# EAGLE library part LT3758A (library rezzonics)
High Input Voltage, Boost, Flyback, SEPIC and Inverting Controller LT3758/LT3758A http://cds.linear.com/docs/en/datasheet/3758Afd.pdf
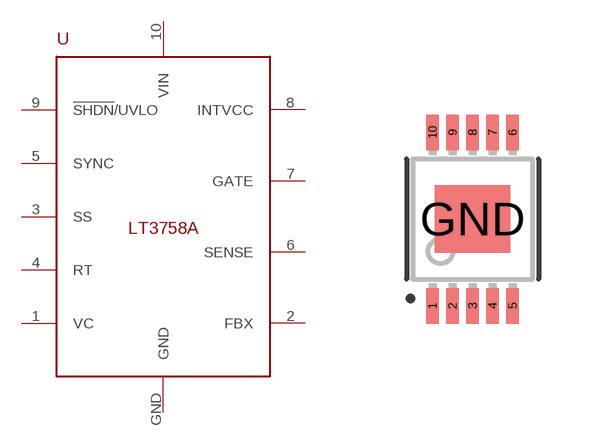
[diagram p6: symbol with the pads of MSOP-10-GNDPAD; footprint MSOP-10-GNDPAD]

Designator prefix U

## LT3758A  [MSOP-10-GNDPAD]
1  VC  pas
2  FBX  in
3  SS  pas
4  RT  pas
5  SYNC  in
6  SENSE  in
7  GATE  out
8  INTVCC  pwr
9  !SHDN!/UVLO  pas
10  VIN  pwr
GND  GND  pwr

## Footprint MSOP-10-GNDPAD (pad centres in mm)
10-lead MSOP w/ center GND pad
smd 0.305 x 0.889: 1 -1,-2.17; 2 -0.5,-2.17; 3 0,-2.17; 4 0.5,-2.17; 5 1,-2.17; 6 1,2.17; 7 0.5,2.17; 8 0,2.17; 9 -0.5,2.17; 10 -1,2.17
smd 1.88 x 1.68: GND 0,0